# Altium footprint library AMPHENOL_RJHSE-5080.PcbLib: 1 footprints
Each footprint in its own frame and in the unit in brackets; x right, y up, seen from the top. Pads: shape width x height; smd on the part's side, far side on the other; paste and mask are expansions set on the pad; w line width, h text height; cw(c..) or ccw(c..) is an arc to the next point about the centre after c.
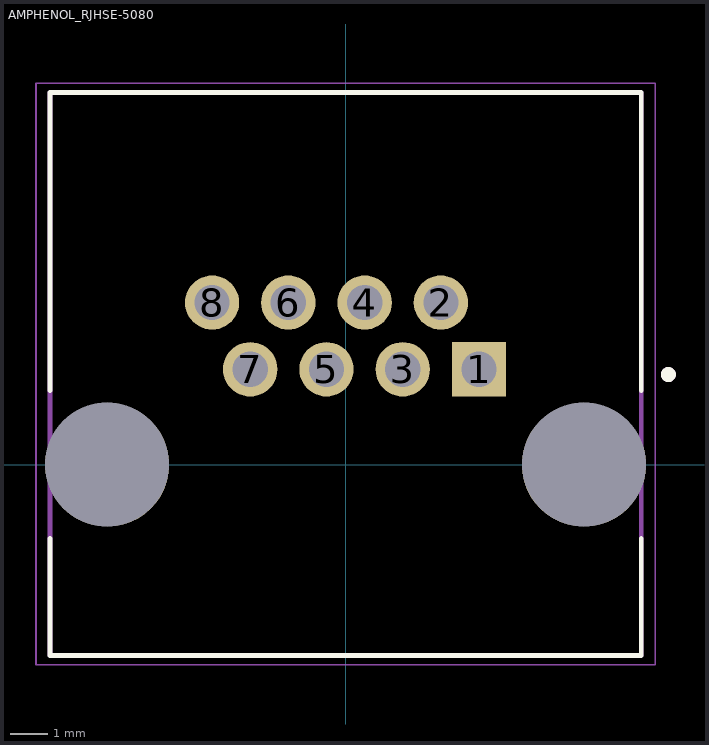
[diagram p0: the footprint, top view; thin cyan lines are the x and y axes]

## AMPHENOL_RJHSE-5080 [mil]
height 520.08
pads (10):
  rect 57x57 / inner round 57 / far side rect 57x57 hole 37: 1(140,100)
  round 57 hole 37: 2(100,170) 3(60,100) 4(20,170) 5(-20,100) 6(-60,170) 7(-100,100) 8(-140,170)
  round 130 hole 130 unplated: ""(-250,0) ""(250,0)
Top Overlay:
  circle w7.87: c338.58,94.49 r3.94
  lines w5: -310.04,-77.56 -310.04,-200 310.04,-200 310.04,-77.56 ; -310.04,77.56 -310.04,390.16 310.04,390.16 310.04,77.56
Assembly Top:
  circle w7.87: c338.58,94.49 r3.94
  lines w5: -310.04,-200 -310.04,390.16 310.04,390.16 310.04,-200 -310.04,-200
Courtyard Top:
  lines w1.97: -324.8,-209.84 324.8,-209.84 324.8,400 -324.8,400 -324.8,-209.84
3D body "step_temp.STEP": height 395.94, standoff -246.06, extent -312.48,-238.99 307.52,351.01